# EAGLE library part CON-2X5 (library steves)
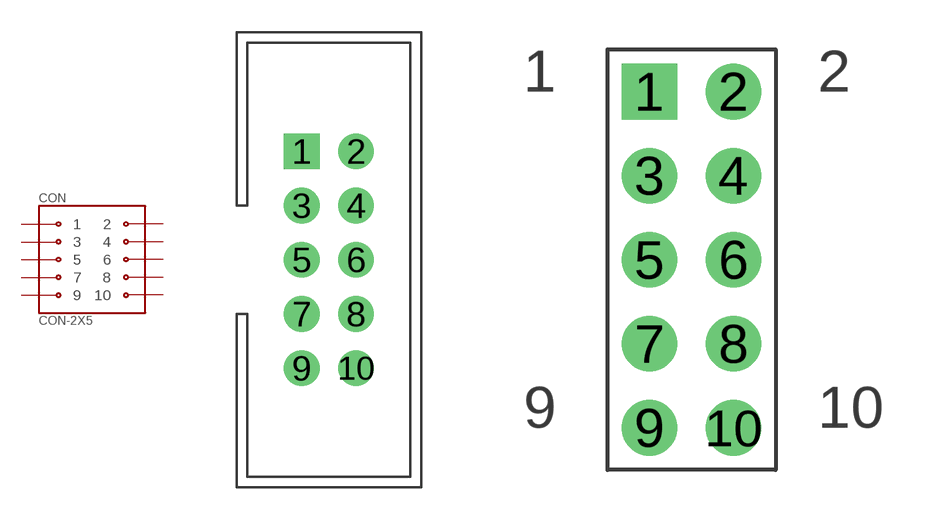
[diagram p5: symbol with the pads of CON-IDC-2X5; footprints CON-IDC-2X5, CON-HDR-2X5]

Designator prefix CON

## CON-2X5IDC-2X5  [CON-IDC-2X5]
1  1  pas
2  2  pas
3  3  pas
4  4  pas
5  5  pas
6  6  pas
7  7  pas
8  8  pas
9  9  pas
10  10  pas

## CON-2X5V  [CON-HDR-2X5]
Pads as for CON-IDC-2X5

## Footprint CON-IDC-2X5 (pad centres in mm)
drill 0.9 pad 1.676 square: 1 0,0
drill 0.9 pad 1.676: 2 2.54,0; 3 0,-2.54; 4 2.54,-2.54; 5 0,-5.08; 6 2.54,-5.08; 7 0,-7.62; 8 2.54,-7.62; 9 0,-10.16; 10 2.54,-10.16

## Footprint CON-HDR-2X5 (pad centres in mm)
drill 0.9 pad 1.676 square: 1 -1.27,5.08
drill 0.9 pad 1.676: 2 1.27,5.08; 3 -1.27,2.54; 4 1.27,2.54; 5 -1.27,0; 6 1.27,0; 7 -1.27,-2.54; 8 1.27,-2.54; 9 -1.27,-5.08; 10 1.27,-5.08